# EAGLE library part PAC1720 (library sensors)
Current & Power Monitors & Regulators Dual I2C/SMBus Current Sensor
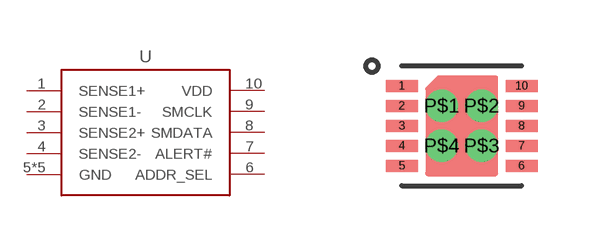
[diagram p2: symbol with the pads of VDFN10; footprint VDFN10]

Designator prefix U

## PAC1720  [VDFN10]
1  SENSE1+
2  SENSE1-
3  SENSE2+
4  SENSE2-
5  GND
6  ADDR_SEL
7  ALERT#
8  SMDATA
9  SMCLK
10  VDD
P$1  GND
P$2  GND
P$3  GND
P$4  GND

## Footprint VDFN10 (pad centres in mm)
smd 0.8 x 0.3: 1 -1.5,1; 2 -1.5,0.5; 3 -1.5,0; 4 -1.5,-0.5; 5 -1.5,-1; 6 1.5,-1; 7 1.5,-0.5; 8 1.5,0; 9 1.5,0.5; 10 1.5,1
drill 0.3 pad 0.61: P$1 -0.5,0.5; P$2 0.5,0.5; P$3 0.5,-0.5; P$4 -0.5,-0.5